# Altium footprint library LED.PcbLib: 11 footprints
Each footprint in its own frame and in the unit in brackets; x right, y up, seen from the top. Pads: shape width x height; smd on the part's side, far side on the other; paste and mask are expansions set on the pad; w line width, h text height; cw(c..) or ccw(c..) is an arc to the next point about the centre after c.
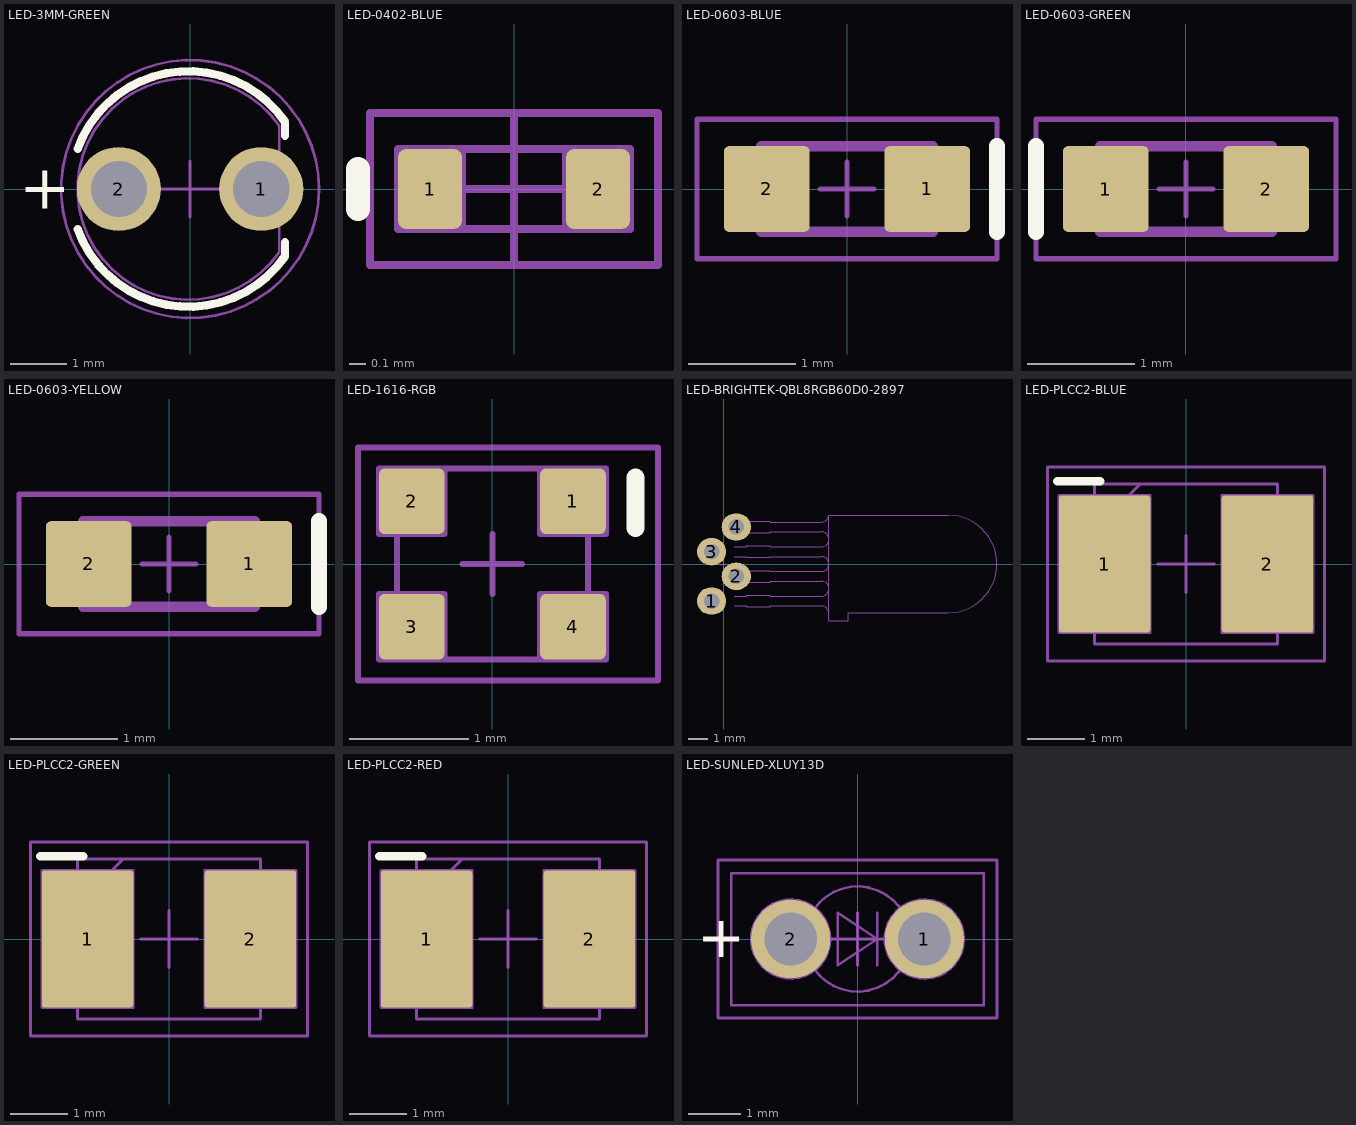
[diagram p0: the footprints below, top view; thin cyan lines are the x and y axes]

## LED-3MM-GREEN [mm]
pads (2):
  round 1.5 hole 1: 1(1.27,0) 2(-1.27,0)
Top Overlay:
  lines w0.15: -2.003,-0.719 ccw(c-0.03,0) 1.694,-1.199 1.694,-0.95 ; -2.003,0.719 cw(c-0.03,0) 1.694,1.199 1.694,0.95
  text "+" at -3.05,-0.35 h0.8
Top Courtyard:
  circle w0.05: c0,0 r2.3
  lines w0.05: -0.5,0 0.5,0 ; 0,-0.5 0,0.5
Top Assembly:
  lines w0.05: 1.591,-1.128 cw(c-0.03,0) 1.591,1.128 1.591,-1.128
3D body "15103xxx.stp": height 5.35, standoff -26.35, extent -1.991,-1.963 1.629,1.963

## LED-0402-BLUE [mm] "LED. 0402, BLUE"
height 0.274
pads (2):
  rrect25% 0.4x0.5 smd paste+0 mask+0.075: 1(-0.525,0) 2(0.525,0)
Top Overlay:
  lines w0.15: -0.975,-0.125 -0.975,0.125
Top Courtyard:
  lines w0.05: -0.5,0 0,0 ; 0,-0.475 0,0 ; 0,0.475 0,0 ; 0.5,0 0,0 ; -0.9,-0.475 -0.9,0.475 0.9,0.475 0.9,-0.475 -0.9,-0.475
Top Assembly:
  lines w0.05: -0.725,-0.25 -0.725,0.25 -0.325,0.25 -0.325,-0.25 -0.725,-0.25 ; -0.5,-0.251 0.5,-0.251 0.5,0.251 -0.5,0.251 -0.5,-0.251 ; 0.325,-0.25 0.725,-0.25 0.725,0.25 0.325,0.25 0.325,-0.25
3D body "QBLP595.step": height 0.5, standoff 0, extent -0.479,-0.25 0.521,0.25

## LED-0603-BLUE [mm]
pads (2):
  rrect12% 0.8x0.8 smd paste+0 mask+0.05: 1(0.75,0) 2(-0.75,0)
Top Overlay:
  lines w0.15: 1.4,-0.4 1.4,0.4
Top Courtyard:
  lines w0.05: -0.25,0 0.25,0 ; 0,-0.25 0,0.25 ; -1.4,-0.65 1.4,-0.65 1.4,0.65 -1.4,0.65 -1.4,-0.65
Top Assembly:
  lines w0.1: -0.8,-0.4 0.8,-0.4 0.8,0.4 -0.8,0.4 -0.8,-0.4
  text "K" at 0.35,-0.4 h0.5
3D body: height 0.9, standoff 0.4, extent -0.55,-0.4 0.55,0.4
3D body: height 0.4, standoff 0, extent -0.8,-0.4 0.8,0.4

## LED-0603-GREEN [mm] "LED,0603,LITEON,LTST-C193TGKT-5A"
pads (2):
  rrect12% 0.8x0.8 smd paste+0 mask+0.05: 1(-0.75,0) 2(0.75,0)
Top Overlay:
  lines w0.15: -1.4,-0.4 -1.4,0.4
Top Courtyard:
  lines w0.05: -0.25,0 0.25,0 ; 0,-0.25 0,0.25 ; -1.4,-0.65 -1.4,0.65 1.4,0.65 1.4,-0.65 -1.4,-0.65
Top Assembly:
  lines w0.1: -0.8,-0.4 0.8,-0.4 0.8,0.4 -0.8,0.4 -0.8,-0.4
  text "K" at -0.8,-0.4 h0.5
3D body "LTST-C193TGKT-5A.step": height 0.66, standoff 0.01, extent -0.8,-0.4 0.8,0.4

## LED-0603-YELLOW [mm]
pads (2):
  rrect12% 0.8x0.8 smd paste+0 mask+0.05: 1(0.75,0) 2(-0.75,0)
Top Overlay:
  lines w0.15: 1.4,-0.4 1.4,0.4
Top Courtyard:
  lines w0.05: -0.25,0 0.25,0 ; 0,-0.25 0,0.25 ; -1.4,-0.65 -1.4,0.65 1.4,0.65 1.4,-0.65 -1.4,-0.65
Top Assembly:
  lines w0.1: -0.8,-0.4 -0.8,0.4 0.8,0.4 0.8,-0.4 -0.8,-0.4
  text "K" at 0.35,-0.4 h0.5
3D body: height 0.4, standoff 0, extent -0.8,-0.4 0.8,0.4
3D body: height 0.9, standoff 0.4, extent -0.55,-0.4 0.55,0.4

## LED-1616-RGB [mm]
pads (4):
  rrect18% 0.55x0.55 smd paste+0 mask+0.05: 1(0.675,0.525) 2(-0.675,0.525) 3(-0.675,-0.525) 4(0.675,-0.525)
Top Overlay:
  lines w0.15: 1.2,0.3 1.2,0.725
Top Courtyard:
  lines w0.05: -0.25,0 0.25,0 ; 0,-0.25 0,0.25 ; -1.125,-0.975 -1.125,0.975 1.387,0.975 1.387,-0.975 -1.125,-0.975
Top Assembly:
  lines w0.05: -0.95,-0.8 -0.4,-0.8 -0.4,-0.25 -0.675,-0.25 -0.95,-0.25 -0.95,-0.8 ; -0.95,0.25 -0.95,0.8 -0.4,0.8 -0.4,0.25 -0.675,0.25 -0.95,0.25 ; -0.8,-0.8 -0.8,0.8 0.8,0.8 0.8,-0.8 -0.8,-0.8 ; 0.4,-0.8 0.95,-0.8 0.95,-0.25 0.675,-0.25 0.4,-0.25 0.4,-0.8 ; 0.4,0.25 0.4,0.8 0.95,0.8 0.95,0.25 0.675,0.25 0.4,0.25
  text "K" at 0.4,0.25 h0.5
3D body "APTF1616.STEP": height 0.71, standoff 0.01, extent -0.8,-0.8 0.8,0.8

## LED-BRIGHTEK-QBL8RGB60D0-2897 [mm] "LED-BRIGHTEK-QBL8RGB60D0-2897"
pads (4):
  oval 1.5x1.4 hole 0.8 mask+0.05: 1(-0.635,-1.905) 2(0.635,-0.635) 3(-0.635,0.635) 4(0.635,1.905)
Top Courtyard:
  lines w0.05: -0.5,0 0,0 ; 0,-0.5 0,0 ; 0,0.5 0,0 ; 0.5,0 0,0
Top Assembly:
  lines w0.05: 0.53,-2.155 1.18,-2.155 1.18,-2.205 2.38,-2.205 2.38,-2.155 5,-2.155 ; 0.53,-1.655 1.18,-1.655 1.18,-1.605 2.38,-1.605 2.38,-1.655 5,-1.655 ccw(c5,-1.27) 5,-0.885 ; 0.53,-0.885 1.18,-0.885 1.18,-0.935 2.38,-0.935 2.38,-0.885 5,-0.885 ; 0.53,-0.385 1.18,-0.385 1.18,-0.335 2.38,-0.335 2.38,-0.385 5,-0.385 ccw(c5,0) 5,0.385 ; 0.53,0.385 1.18,0.385 1.18,0.335 2.38,0.335 2.38,0.385 5,0.385 ; 0.53,0.885 1.18,0.885 1.18,0.935 2.38,0.935 2.38,0.885 5,0.885 ccw(c5,1.27) 5,1.655 ; 0.53,1.655 1.18,1.655 1.18,1.605 2.38,1.605 2.38,1.655 5,1.655 ; 0.53,2.155 1.18,2.155 1.18,2.205 2.38,2.205 2.38,2.155 5,2.155 ccw(c5,2.54) 5.379,2.473 ; 5.385,-2.54 ccw(c5,-2.54) 5,-2.155 ; 5,-2.155 5,-2.155 ; 5,-0.885 5,-0.885 ; 5,-0.885 5,-0.885 ; 5,0.385 5,0.385 ; 5,1.655 5,1.655 ; 5.38,-2.925 6.38,-2.925 6.38,-2.5 11.53,-2.5 ccw(c11.53,0) 11.53,2.5 5.38,2.5 5.38,-2.925

## LED-PLCC2-BLUE [mm] "SMD Mono-color TOP LED, body 3.2x2.8mm"
height 1.9
pads (2):
  rrect6% 1.6x2.4 smd mask+0.05: 1(-1.425,0) 2(1.425,0)
Top Overlay:
  lines w0.15: -2.25,1.45 -1.5,1.45
Top Courtyard:
  lines w0.05: -0.5,0 0.5,0 ; 0,-0.5 0,0.5 ; -2.425,-1.7 2.425,-1.7 2.425,1.7 -2.425,1.7 -2.425,-1.7
Top Assembly:
  lines w0.05: -1.6,0.6 -0.8,1.4 ; -2.225,-1.2 -0.625,-1.2 -0.625,1.2 -1.425,1.2 -2.225,1.2 -2.225,-1.2 ; -1.6,-1.4 1.6,-1.4 1.6,1.4 -1.6,1.4 -1.6,-1.4 ; 0.625,-1.2 2.225,-1.2 2.225,1.2 1.425,1.2 0.625,1.2 0.625,0 0.625,-1.2
  text "K" at -2.225,-1.185 h2
3D body: height 1.27, standoff 0, extent -1,-1 1,1
3D body "150141xxx73113.stp": height 1.9, standoff 0, extent -1.75,-1.4 1.75,1.4

## LED-PLCC2-GREEN [mm] "SMD Mono-color TOP LED, body 3.2x2.8mm"
height 1.9
pads (2):
  rrect6% 1.6x2.4 smd mask+0.05: 1(-1.425,0) 2(1.425,0)
Top Overlay:
  lines w0.15: -2.25,1.45 -1.5,1.45
Top Courtyard:
  lines w0.05: -0.5,0 0.5,0 ; 0,-0.5 0,0.5 ; -2.425,-1.7 -2.425,1.7 2.425,1.7 2.425,-1.7 -2.425,-1.7
Top Assembly:
  lines w0.05: -1.6,0.6 -0.8,1.4 ; -2.225,-1.2 -2.225,1.2 -1.425,1.2 -0.625,1.2 -0.625,-1.2 -2.225,-1.2 ; -1.6,-1.4 -1.6,1.4 1.6,1.4 1.6,-1.4 -1.6,-1.4 ; 0.625,-1.2 0.625,0 0.625,1.2 1.425,1.2 2.225,1.2 2.225,-1.2 0.625,-1.2
  text "K" at -2.225,-1.185 h2
3D body "150141xxx73113.stp": height 1.9, standoff 0, extent -1.75,-1.4 1.75,1.4
3D body: height 1.27, standoff 0, extent -1,-1 1,1

## LED-PLCC2-RED [mm] "SMD Mono-color TOP LED, body 3.2x2.8mm"
height 1.9
pads (2):
  rrect6% 1.6x2.4 smd mask+0.05: 1(-1.425,0) 2(1.425,0)
Top Overlay:
  lines w0.15: -2.25,1.45 -1.5,1.45
Top Courtyard:
  lines w0.05: -0.5,0 0.5,0 ; 0,-0.5 0,0.5 ; -2.425,-1.7 -2.425,1.7 2.425,1.7 2.425,-1.7 -2.425,-1.7
Top Assembly:
  lines w0.05: -1.6,0.6 -0.8,1.4 ; -2.225,-1.2 -2.225,1.2 -1.425,1.2 -0.625,1.2 -0.625,-1.2 -2.225,-1.2 ; -1.6,-1.4 -1.6,1.4 1.6,1.4 1.6,-1.4 -1.6,-1.4 ; 0.625,-1.2 0.625,0 0.625,1.2 1.425,1.2 2.225,1.2 2.225,-1.2 0.625,-1.2
  text "K" at -2.225,-1.185 h2
3D body "150141xxx73113.stp": height 1.9, standoff 0, extent -1.75,-1.4 1.75,1.4
3D body: height 1.27, standoff 0, extent -1,-1 1,1

## LED-SUNLED-XLUY13D [mm] "LED.YELLOW,DIFFUSED,FLAT TOP,2MM LENS,RECTANGLE BODY"
pads (2):
  round 1.5 hole 1: 1(1.27,0) 2(-1.27,0)
Top Overlay:
  text "+" at -3.05,-0.35 h0.8
Top Courtyard:
  lines w0.05: -0.5,0 0.5,0 ; 0,-0.5 0,0.5 ; -2.65,-1.5 2.65,-1.5 2.65,1.5 -2.65,1.5 -2.65,-1.5
Top Assembly:
  circle w0.05: c0,0 r1
  circle w0.05: c1.27,0 r0.75
  circle w0.05: c1.27,0 r0.505
  circle w0.05: c-1.27,0 r0.75
  circle w0.05: c-1.27,0 r0.495
  lines w0.05: 0.375,-0.5 0.375,0 ; 0.375,0.5 0.375,0 ; -0.375,0 -0.375,-0.5 0.375,0 ; -0.375,0 0.375,0 ; -0.375,0 -0.375,0.5 0.375,0 ; -0.375,0 0.375,0 ; -2.4,-1.26 2.4,-1.26 2.4,1.252 -2.4,1.252 -2.4,-1.26
3D body "XLxx13.step": height 10.05, standoff -24.95, extent -2.4,-1.26 2.4,1.252